# EAGLE library part BMP280 (library awesome)
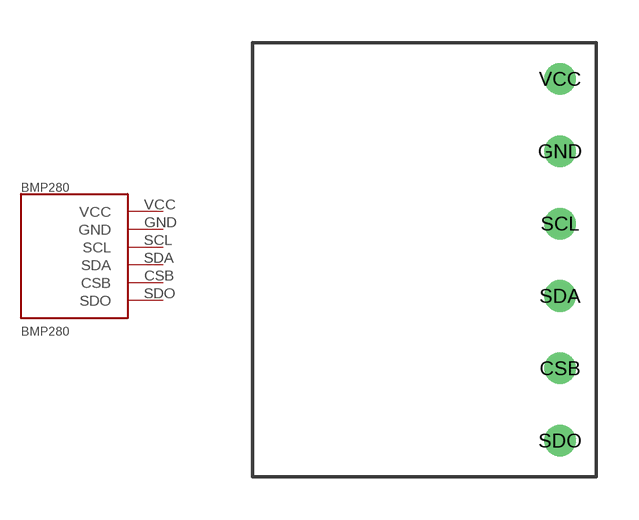
[diagram p5: symbol with the pads of BMP280; footprint BMP280]

Designator prefix BMP280

## BMP280  [BMP280]
CSB  CSB
GND  GND
SCL  SCL
SDA  SDA
SDO  SDO
VCC  VCC

## Footprint BMP280 (pad centres in mm)
drill 0.6: CSB 10.795,3.81; GND 10.795,11.43; SCL 10.795,8.89; SDA 10.795,6.35; SDO 10.795,1.27; VCC 10.795,13.97